# Altium footprint library PCB_Lib_Acelerometro.PcbLib: 2 footprints
Each footprint in its own frame and in the unit in brackets; x right, y up, seen from the top. Pads: shape width x height; smd on the part's side, far side on the other; paste and mask are expansions set on the pad; w line width, h text height; cw(c..) or ccw(c..) is an arc to the next point about the centre after c.
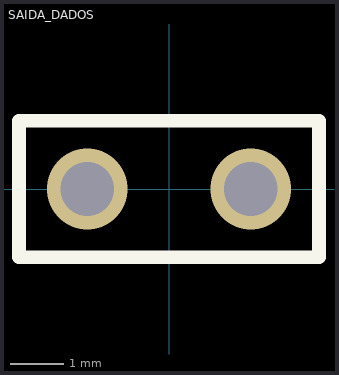
[diagram p0: the footprints below, top view; thin cyan lines are the x and y axes]

## SAIDA_DADOS [mm]
via -1.524,0 diameter 1.5 hole 1
via 1.524,0 diameter 1.5 hole 1
Top Overlay:
  lines w0.254: -2.794,-1.27 -2.794,1.27 2.794,1.27 2.794,-1.27 -2.794,-1.27

## Via_Conect [mm]
via 0,0 diameter 1.27 hole 0.711